# EAGLE library part AD8397 (library ardustat)
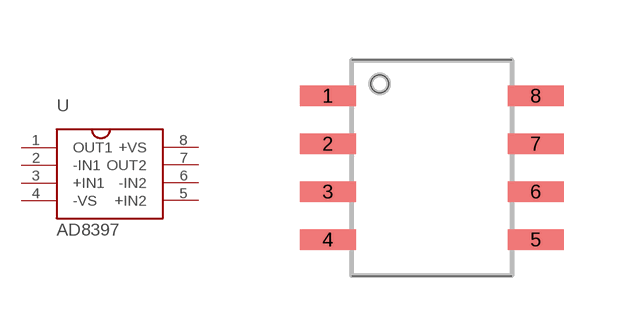
[diagram p6: symbol with the pads of AD8397; footprint AD8397]

Designator prefix -

## AD8397  [AD8397]
1  OUT1
2  -IN1
3  +IN1
4  -VS
5  +IN2
6  -IN2
7  OUT2
8  +VS

## Footprint AD8397 (pad centres in mm)
smd 1.4 x 0.51: 1 -2.5,1.5; 2 -2.5,0.3; 3 -2.5,-0.9; 4 -2.5,-2.1; 5 2.7,-2.1; 6 2.7,-0.9; 7 2.7,0.3; 8 2.7,1.5